# Altium footprint library PCB LIB.PcbLib: 2 footprints
Each footprint in its own frame and in the unit in brackets; x right, y up, seen from the top. Pads: shape width x height; smd on the part's side, far side on the other; paste and mask are expansions set on the pad; w line width, h text height; cw(c..) or ccw(c..) is an arc to the next point about the centre after c.
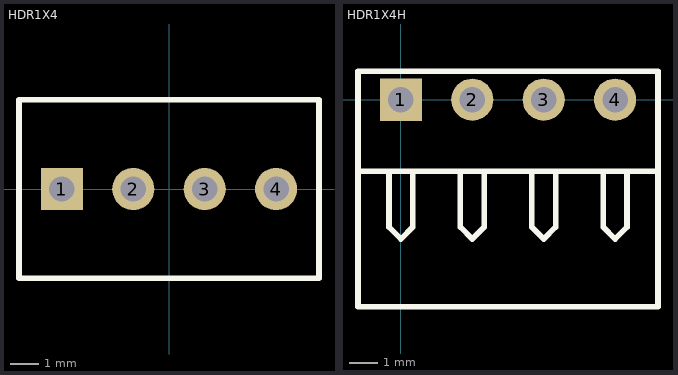
[diagram p0: the footprints below, top view; thin cyan lines are the x and y axes]

## HDR1X4 [mm] "Connector; Header; 4 Position"
pads (4):
  rect 1.5x1.5 hole 0.9: 1(-3.81,0)
  round 1.5 hole 0.9: 2(-1.27,0) 3(1.27,0) 4(3.81,0)
Top Overlay:
  lines w0.2: -5.334,-3.175 5.334,-3.175 5.334,3.175 -5.334,3.175 -5.334,1.206 -5.334,-1.206 -5.334,-3.175
3D body "022272041.stp": height 10.88, standoff -4.38, extent -5.08,-2.9 5.08,2.9

## HDR1X4H [mm] "Connector; Header; 4 Position; Right Angle"
pads (4):
  rect 1.5x1.5 hole 0.9: 1(0,0)
  round 1.5 hole 0.9: 2(2.54,0) 3(5.08,0) 4(7.62,0)
Top Overlay:
  lines w0.2: -0.423,-2.54 -0.423,-4.53 0,-4.953 0.423,-4.53 0.423,-2.54 ; 2.117,-2.54 2.117,-4.53 2.54,-4.953 2.963,-4.53 2.963,-2.54 ; 4.657,-2.54 4.657,-4.53 5.08,-4.953 5.503,-4.53 5.503,-2.54 ; 7.197,-2.54 7.197,-4.53 7.62,-4.953 8.043,-4.53 8.043,-2.54 ; -1.524,-2.54 -1.524,1.016 9.144,1.016 9.144,-2.54 ; -1.524,-2.54 9.144,-2.54 ; -1.524,-2.54 -1.524,-7.366 9.144,-7.366 9.144,-2.54
3D body "022152046.stp": height 4.7, standoff -3.35, extent -1.219,-7.112 8.839,0.762